# EAGLE library part HEADER_POS7_? (library con-molex-c-grid-sl)
Molex -C-Grid® / SL Series connector Wire-to-Board 2.54 mm (0.100") pitch header, 7 positions.
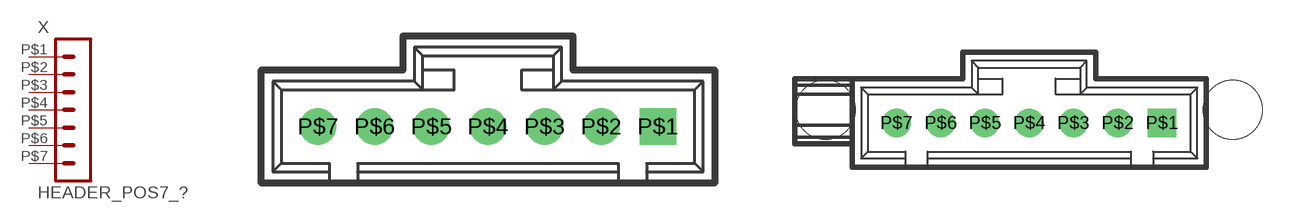
[diagram p1: symbol with the pads of 70543-POS7; footprints 70543-POS7, 70545-POS7]

Designator prefix X

## HEADER_POS7_70543  [70543-POS7]
P$1  1  pas
P$2  2  pas
P$3  3  pas
P$4  4  pas
P$5  5  pas
P$6  6  pas
P$7  7  pas

## HEADER_POS7_70545  [70545-POS7]
Pads as for 70543-POS7

## HEADER_POS7_70553  [70553-POS7]
Pads as for 70543-POS7

## HEADER_POS7_70555  [70555-POS7]
Pads as for 70543-POS7

## HEADER_POS7_70634  [70634-POS7]
Pads as for 70543-POS7

## HEADER_POS7_74099  [74099-POS7]
Pads as for 70543-POS7

## Footprint 70543-POS7 (pad centres in mm)
Molex C-Grid/SL - 70543 - Header, Shrouded, Thru Hole, Latch Holder http://www.molex.com/pdm_docs/sd/705430001_sd.pdf
drill 1.1 square: P$1 7.62,0
drill 1.1 round: P$2 5.08,0; P$3 2.54,0; P$4 0,0; P$5 -2.54,0; P$6 -5.08,0; P$7 -7.62,0

## Footprint 70545-POS7 (pad centres in mm)
Molex C-Grid/SL - 70545 - Header, Shrouded, Thru Hole, Latch Holder, Board Guide http://www.molex.com/pdm_docs/sd/705450003_sd.pdf
drill 1.1 square: P$1 7.62,0
drill 1.1 round: P$2 5.08,0; P$3 2.54,0; P$4 0,0; P$5 -2.54,0; P$6 -5.08,0; P$7 -7.62,0
hole 3.404 at -11.684,0.762
hole 3.404 at 11.684,0.762

## Footprint 70553-POS7 (pad centres in mm)
Molex C-Grid/SL - 70553 - Header, Shrouded, Thru Hole, Right Angle, Latch Holder http://www.molex.com/pdm_docs/sd/705530106_sd.pdf
drill 1.1 square: P$1 -7.62,0
drill 1.1 round: P$2 -5.08,0; P$3 -2.54,0; P$4 0,0; P$5 2.54,0; P$6 5.08,0; P$7 7.62,0

## Footprint 70555-POS7 (pad centres in mm)
Molex C-Grid/SL - 70555 - Header, Shrouded, Thru Hole, Right Angle, Latch Holder, Board Guide. http://www.molex.com/pdm_docs/sd/705550001_sd.pdf
drill 1.1 square: P$1 -7.62,0
drill 1.1 round: P$2 -5.08,0; P$3 -2.54,0; P$4 0,0; P$5 2.54,0; P$6 5.08,0; P$7 7.62,0
hole 3.404 at -9.017,8.636
hole 3.404 at 9.017,8.636

## Footprint 70634-POS7 (pad centres in mm)
Molex C-Grid/SL - 70634 - Header, Shrouded, Surface Mount, Right Angle, Latch Holder http://www.molex.com/pdm_docs/sd/015912045_sd.pdf
smd 1.651 x 5.334: P$1 -7.62,0; P$2 -5.08,0; P$3 -2.54,0; P$4 0,0; P$5 2.54,0; P$6 5.08,0; P$7 7.62,0
hole 3.404 at -9.017,10.693
hole 3.404 at 9.017,10.693

## Footprint 74099-POS7 (pad centres in mm)
Molex C-Grid/SL - 74099 - Header, Shrouded, Surface Mount, Latch Holder http://www.molex.com/pdm_docs/sd/740991004_sd.pdf
smd 1.27 x 3.175: P$1 7.62,2.095; P$2 5.08,-2.095; P$3 2.54,2.095; P$4 0,-2.095; P$5 -2.54,2.095; P$6 -5.08,-2.095; P$7 -7.62,2.095